# Altium footprint library J-Link 6-pin Needle Adapter.PCBLIB: 2 footprints
Each footprint in its own frame and in the unit in brackets; x right, y up, seen from the top. Pads: shape width x height; smd on the part's side, far side on the other; paste and mask are expansions set on the pad; w line width, h text height; cw(c..) or ccw(c..) is an arc to the next point about the centre after c.
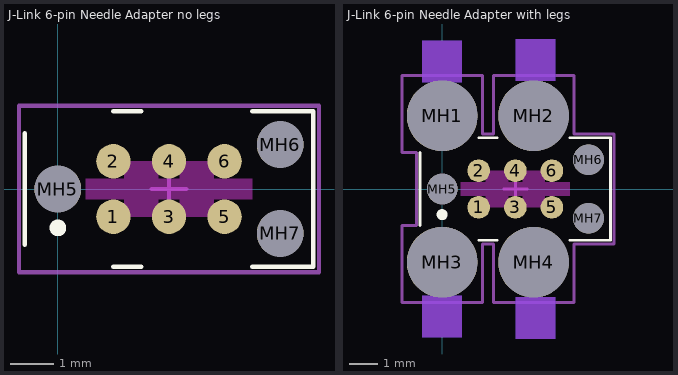
[diagram p0: the footprints below, top view; thin cyan lines are the x and y axes]

## J-Link 6-pin Needle Adapter no legs [mil]
pads (9):
  rrect100% 30.98x30.98 smd: 1(50,-25) 2(50,25) 3(100,-25) 4(100,25) 5(150,-25) 6(150,25)
  round 42.01 hole 42.01 unplated: MH5(0,0) MH6(200,40) MH7(200,-40)
Top keep-out:
  rectangle: 109.5,-25 140.5,25
  rectangle: 59.5,-25 90.5,25
  rectangle: 25,-9.5 175,9.5
Top Overlay:
  circle w10: c0,-35 r2.5
  lines w4: -30,-50 -30,50 ; 50,-70 75,-70 ; 50,70 75,70 ; 175,-70 230,-70 230,70 175,70
Top Assembly:
  lines w4: -35,-75 235,-75 235,75 -35,75 -35,-75
Mechanical 15:
  lines w3.94: 84.25,0 115.75,0 ; 100,-15.75 100,15.75

## J-Link 6-pin Needle Adapter with legs [mil]
pads (13):
  rrect100% 30.98x30.98 smd: 1(50,-25) 2(50,25) 3(100,-25) 4(100,25) 5(150,-25) 6(150,25)
  round 96.5 hole 96.5 unplated: MH1(0,100) MH2(125,100) MH3(0,-100) MH4(125,-100)
  round 42.01 hole 42.01 unplated: MH5(0,0) MH6(200,40) MH7(200,-40)
Top keep-out:
  rectangle: 109.5,-25 140.5,25
  rectangle: 59.5,-25 90.5,25
  rectangle: 25,-9.5 175,9.5
Bottom keep-out:
  rectangle: -27.24,-202.74 27.24,-145.67
  rectangle: 100.51,-205 155,-147.93
  region: 155,205 100.51,205 100.51,147.93 155,147.93
  region: 27.24,202.74 -27.24,202.74 -27.24,145.67 27.24,145.67
Top Overlay:
  circle w10: c0,-35 r2.5
  lines w4: -30,-50 -30,50 ; 50,-70 75,-70 ; 50,70 75,70 ; 175,-70 230,-70 230,70 175,70
Mechanical 15:
  lines w3.94: 84.25,0 115.75,0 ; 100,-15.75 100,15.75
  lines w4: -55,-155 -55,-150 -55,-50 -35,-50 -35,50 -55,50 -55,155 55,155 55,75 70,75 70,155 180,155 180,75 235,75 235,-75 180,-75 180,-155 70,-155 70,-75 55,-75 55,-155 -55,-155